# EAGLE library part MAPLE_MINI (library maple_mini)
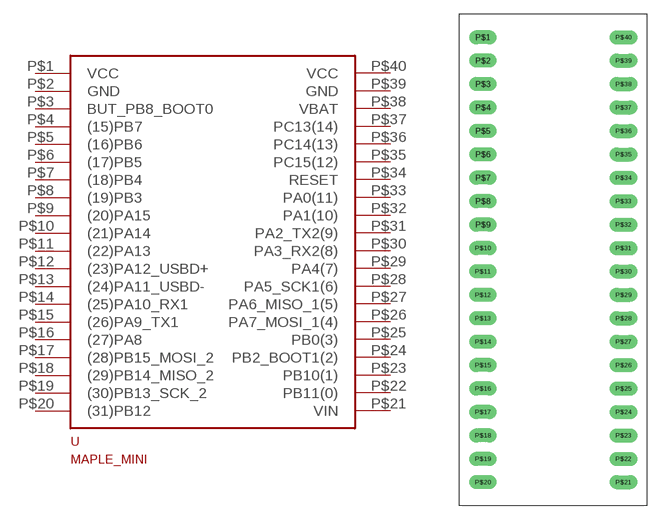
[diagram p0: symbol with the pads of MAPLE_MINI; footprint MAPLE_MINI]

Designator prefix -

## MAPLE_MINI  [MAPLE_MINI]
P$1  VCC
P$2  GND  pwr
P$3  BUT_PB8_BOOT0
P$4  (15)PB7
P$5  (16)PB6
P$6  (17)PB5
P$7  (18)PB4
P$8  (19)PB3
P$9  (20)PA15
P$10  (21)PA14
P$11  (22)PA13
P$12  (23)PA12_USBD+
P$13  (24)PA11_USBD-
P$14  (25)PA10_RX1
P$15  (26)PA9_TX1
P$16  (27)PA8
P$17  (28)PB15_MOSI_2
P$18  (29)PB14_MISO_2
P$19  (30)PB13_SCK_2
P$20  (31)PB12
P$21  VIN  pwr
P$22  PB11(0)
P$23  PB10(1)
P$24  PB2_BOOT1(2)
P$25  PB0(3)
P$26  PA7_MOSI_1(4)
P$27  PA6_MISO_1(5)
P$28  PA5_SCK1(6)
P$29  PA4(7)
P$30  PA3_RX2(8)
P$31  PA2_TX2(9)
P$32  PA1(10)
P$33  PA0(11)
P$34  RESET
P$35  PC15(12)
P$36  PC14(13)
P$37  PC13(14)
P$38  VBAT
P$39  GND  pwr
P$40  VCC

## Footprint MAPLE_MINI (pad centres in mm)
drill 1 long: P$1 0,0; P$2 0,-2.54; P$3 0,-5.08; P$4 0,-7.62; P$5 0,-10.16; P$6 0,-12.7; P$7 0,-15.24; P$8 0,-17.78; P$9 0,-20.32; P$10 0,-22.86; P$11 0,-25.4; P$12 0,-27.94; P$13 0,-30.48; P$14 0,-33.02; P$15 0,-35.56; P$16 0,-38.1; P$17 0,-40.64; P$18 0,-43.18; P$19 0,-45.72; P$20 0,-48.26; P$21 15.24,-48.26; P$22 15.24,-45.72; P$23 15.24,-43.18; P$24 15.24,-40.64; P$25 15.24,-38.1; P$26 15.24,-35.56; P$27 15.24,-33.02; P$28 15.24,-30.48; P$29 15.24,-27.94; P$30 15.24,-25.4; P$31 15.24,-22.86; P$32 15.24,-20.32; P$33 15.24,-17.78; P$34 15.24,-15.24; P$35 15.24,-12.7; P$36 15.24,-10.16; P$37 15.24,-7.62; P$38 15.24,-5.08; P$39 15.24,-2.54; P$40 15.24,0